# EAGLE library part GSMMODULEDELUXE (library maxorig)
GSMDeluxe - Voice and data GSM module cheap SIM800L based module with support for the AT command set, and analog audio for voice calls. This version has a uFL connector for the antenna and a push-push micro (not nano) SIM card slot. This module adds pins for a microphone and speaker, as well as a 0.1' header pin for an on-board antenna. Technical specifications: Networks: GSM, GPRS (2G) VCC: 3.4-4.4V Operating temperature: -40 to +85C GPRS data rate: 85.6 kbps Autobaud support: 1200-57600 baud
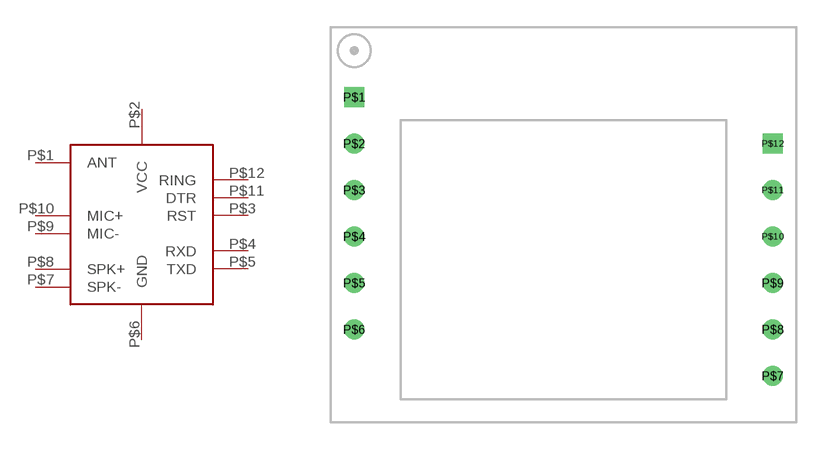
[diagram p22: symbol with the pads of SIM800DELUXE; footprint SIM800DELUXE]

Designator prefix -

## GSMMODULEDELUXE  [SIM800DELUXE]
P$1  ANT
P$2  VCC
P$3  RST
P$4  RXD
P$5  TXD
P$6  GND
P$7  SPK-
P$8  SPK+
P$9  MIC-
P$10  MIC+
P$11  DTR
P$12  RING

## Footprint SIM800DELUXE (pad centres in mm)
drill 0.6 square: P$1 0,0; P$12 22.86,-2.54
drill 0.6: P$2 0,-2.54; P$3 0,-5.08; P$4 0,-7.62; P$5 0,-10.16; P$6 0,-12.7; P$7 22.86,-15.24; P$8 22.86,-12.7; P$9 22.86,-10.16; P$10 22.86,-7.62; P$11 22.86,-5.08